# EAGLE library part DB9-CONNECTOR-PCB (library AIC_Custom)
DB9 Connector Multicomp PCB Right-Angle DB9 Connector Female 5504F1-09S-02A-03
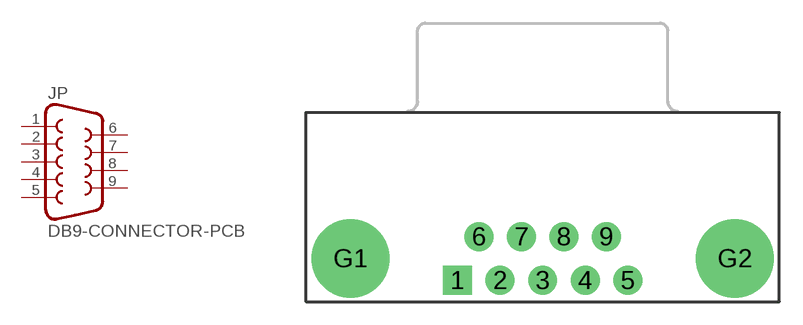
[diagram p5: symbol with the pads of MULTICOMP-DB9-FEMALE-PCB-90DEG; footprint MULTICOMP-DB9-FEMALE-PCB-90DEG]

Designator prefix JP

## DB9-CONNECTOR-PCBFEMALE  [MULTICOMP-DB9-FEMALE-PCB-90DEG]
1  1  pas
2  2  pas
3  3  pas
4  4  pas
5  5  pas
6  6  pas
7  7  pas
8  8  pas
9  9  pas

## Footprint MULTICOMP-DB9-FEMALE-PCB-90DEG (pad centres in mm)
Multicomp PCB Right-Angle DB9 Connector Female 5504F1-09S-02A-03
drill 1.016 pad 1.88 square: 1 -5.54,-1.42
drill 1.016 pad 1.88: 2 -2.77,-1.42; 3 0,-1.42; 4 2.77,-1.42; 5 5.54,-1.42; 6 -4.15,1.42; 7 -1.38,1.42; 8 1.38,1.42; 9 4.15,1.42
drill 3.302 pad 5.08: G1 -12.496,0; G2 12.496,0